# Altium schematic symbol library NRF52832-CIAA.SchLib: 1 symbol
Pins are listed as number, name and electrical type; pins without a type are passive.

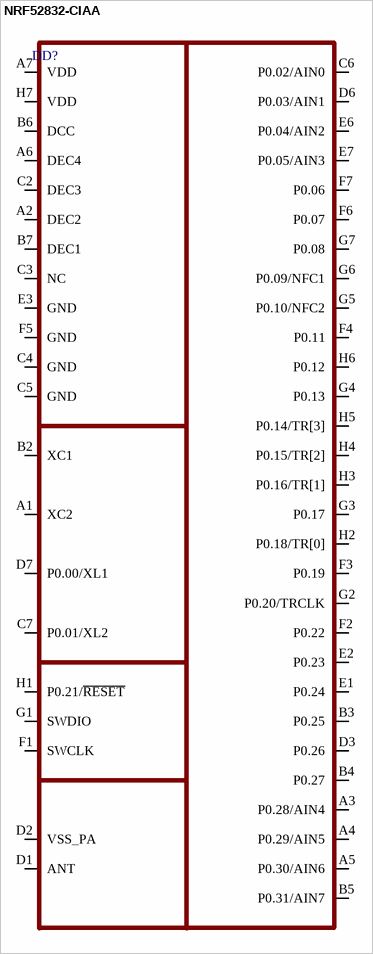
[diagram p0: symbol NRF52832-CIAA]

## NRF52832-CIAA
designator DD?
pins: A1 XC2, A2 DEC2, A3 P0.28/AIN4, A4 P0.29/AIN5, A5 P0.30/AIN6, A6 DEC4, A7 VDD, B2 XC1, B3 P0.25, B4 P0.27, B5 P0.31/AIN7, B6 DCC, B7 DEC1, C2 DEC3, C3 NC, C4 GND, C5 GND, C6 P0.02/AIN0, C7 P0.01/XL2, D1 ANT, D2 VSS_PA, D3 P0.26, D6 P0.03/AIN1, D7 P0.00/XL1, E1 P0.24, E2 P0.23, E3 GND, E6 P0.04/AIN2, E7 P0.05/AIN3, F1 SWCLK, F2 P0.22, F3 P0.19, F4 P0.11, F5 GND, F6 P0.07, F7 P0.06, G1 SWDIO, G2 P0.20/TRCLK, G3 P0.17, G4 P0.13, G5 P0.10/NFC2, G6 P0.09/NFC1, G7 P0.08, H1 P0.21/~{RESET}, H2 P0.18/TR[0], H3 P0.16/TR[1], H4 P0.15/TR[2], H5 P0.14/TR[3], H6 P0.12, H7 VDD